# Altium schematic symbol library NCP360SN.SchLib: 1 symbol
Pins are listed as number, name and electrical type; pins without a type are passive.

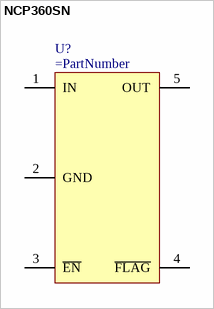
[diagram p0: symbol NCP360SN]

## NCP360SN
designator U?
pins: 1 IN, 2 GND, 3 ~{EN}, 4 ~{FLAG}, 5 OUT